# Altium schematic symbol library SENS - Motion Sensors - Accelerometers.SchLib: 3 symbols
Pins are listed as number, name and electrical type; pins without a type are passive.

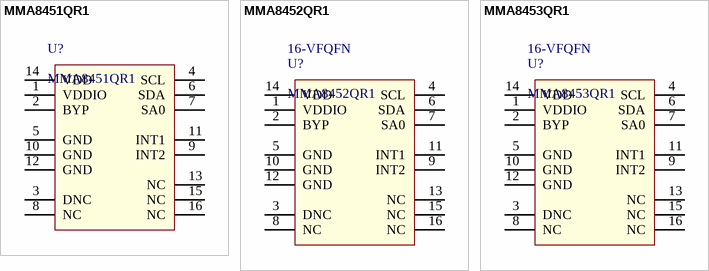
[diagram p0: symbols MMA8451QR1 to MMA8453QR1]

## MMA8451QR1
designator U?
ACCELEROMETER 2-8G I2C 16QFN; Manufacturer: NXP USA Inc.; Axis: X, Y, Z; Acceleration Range: ±2g, 4g, 8g; Sensitivity (LSB/g): 4096 (±2g) ~ 1024 (±8g); Bandwidth: 0.78Hz ~ 400Hz; Output Type: I²C; Voltage - Supply: 1.95 V ~ 3.6 V; Supplier 1: Digi-Key; Supplier Part Number 1: MMA8451QR1CT-ND; Manufacturer Part Number: MMA8451QR1; RoHS: RoHS Compliant; Category: Sensors, Transducers; Stock 1: 45561; Pricing 1: 1=2.65, 5=2.502, 10=2.145, 25=1.716, 50=1.573, 100=1.43, 500=1.25126 (USD); Packaging: Cut Tape (CT); Part Status: Active; Type: Digital; Sensitivity (mV/g): -; Features: Adjustable Bandwidth, Selectable Scale, Sleep Mode; Operating Temperature: -40°C ~ 85°C (TA); Mounting Type: Surface Mount; Supplier Device Package: 16-QFN (3x3); ComponentLink1URL: http://cache.freescale.com/files/sensors/doc/data_sheet/MMA8451Q.pdf; ComponentLink1Description: http://cache.freescale.com/files/sensors/doc/data_sheet/MMA8451Q.pdf; Package: 16-VFQFN
footprint QFN-16 MMA845xQ (QFN, 16-Leads, Body 3.0x3.0mm (max), Pitch 0.50mm, IPC Low Density)
pins: 1 VDDIO "Internal power supply (1.62 V to 3.6 V)", 2 BYP "Bypass capacitor (0.1 mF)", 3 DNC "Do not connect to anything, leave pin isolated and floating.", 4 SCL "I2C serial clock, open drain", 5 GND "Connect to ground", 6 SDA "I2C serial data", 7 SA0 "I2C least significant bit of the device I2C address, I2C 7-bit address = 0x1C (SA0 = 0), 0x1D (SA0 = 1).", 8 NC "Internally not connected", 9 INT2 "Inertial interrupt 2, output pin", 10 GND "Connect to ground", 11 INT1 "Inertial interrupt 1, output pin", 12 GND "Connect to ground", 13 NC "Internally not connected", 14 VDD "Power supply (1.95 V to 3.6 V)", 15 NC "Internally not connected", 16 NC "Internally not connected (can be GND or VDD)"

## MMA8452QR1
designator U?  Package: 16-VFQFN
ACCELEROMETER 2-8G I2C 16QFN; Manufacturer: NXP USA Inc.; Axis: X, Y, Z; Acceleration Range: ±2g, 4g, 8g; Sensitivity (LSB/g): 1024 (±2g) ~ 256 (±8g); Bandwidth: 0.78Hz ~ 400Hz; Output Type: I²C; Voltage - Supply: 1.95 V ~ 3.6 V; Supplier 1: Digi-Key; Supplier Part Number 1: MMA8452QR1CT-ND; Manufacturer Part Number: MMA8452QR1; RoHS: RoHS Compliant; Category: Sensors, Transducers; Stock 1: 40000; Pricing 1: 1=2.08, 5=1.964, 10=1.683, 25=1.3464, 50=1.2342, 100=1.122, 500=0.98176 (USD); Packaging: Cut Tape (CT); Part Status: Active; Type: Digital; Sensitivity (mV/g): -; Features: Adjustable Bandwidth, Selectable Scale, Sleep Mode; Operating Temperature: -40°C ~ 85°C (TA); Mounting Type: Surface Mount; Supplier Device Package: 16-QFN (3x3); ComponentLink1URL: http://cache.freescale.com/files/sensors/doc/data_sheet/MMA8452Q.pdf; ComponentLink1Description: http://cache.freescale.com/files/sensors/doc/data_sheet/MMA8452Q.pdf
footprint QFN-16 MMA845xQ (QFN, 16-Leads, Body 3.0x3.0mm (max), Pitch 0.50mm, IPC Low Density)
pins: 1 VDDIO "Internal power supply (1.62 V to 3.6 V)", 2 BYP "Bypass capacitor (0.1 mF)", 3 DNC "Do not connect to anything, leave pin isolated and floating.", 4 SCL "I2C serial clock, open drain", 5 GND "Connect to ground", 6 SDA "I2C serial data", 7 SA0 "I2C least significant bit of the device I2C address, I2C 7-bit address = 0x1C (SA0 = 0), 0x1D (SA0 = 1).", 8 NC "Internally not connected", 9 INT2 "Inertial interrupt 2, output pin", 10 GND "Connect to ground", 11 INT1 "Inertial interrupt 1, output pin", 12 GND "Connect to ground", 13 NC "Internally not connected", 14 VDD "Power supply (1.95 V to 3.6 V)", 15 NC "Internally not connected", 16 NC "Internally not connected (can be GND or VDD)"

## MMA8453QR1
designator U?  Package: 16-VFQFN
ACCELEROMETER 2-8G I2C 16QFN; Manufacturer: NXP USA Inc.; Axis: X, Y, Z; Acceleration Range: ±2g, 4g, 8g; Sensitivity (LSB/g): 256 (±2g) ~ 64 (±8g); Bandwidth: 0.78Hz ~ 400Hz; Output Type: I²C; Voltage - Supply: 1.95 V ~ 3.6 V; Supplier 1: Digi-Key; Supplier Part Number 1: MMA8453QR1CT-ND; Manufacturer Part Number: MMA8453QR1; RoHS: RoHS Compliant; Category: Sensors, Transducers; Stock 1: 8975; Pricing 1: 1=2.08, 5=1.964, 10=1.683, 25=1.3464, 50=1.2342, 100=1.122, 500=0.98176 (USD); Packaging: Cut Tape (CT); Part Status: Active; Type: Digital; Sensitivity (mV/g): -; Features: Adjustable Bandwidth, Selectable Scale, Sleep Mode; Operating Temperature: -40°C ~ 85°C (TA); Mounting Type: Surface Mount; Supplier Device Package: 16-QFN (3x3); ComponentLink1URL: http://cache.freescale.com/files/sensors/doc/data_sheet/MMA8453Q.pdf; ComponentLink1Description: http://cache.freescale.com/files/sensors/doc/data_sheet/MMA8453Q.pdf
footprint QFN-16 MMA845xQ (QFN, 16-Leads, Body 3.0x3.0mm (max), Pitch 0.50mm, IPC Low Density)
pins: 1 VDDIO "Internal power supply (1.62 V to 3.6 V)", 2 BYP "Bypass capacitor (0.1 mF)", 3 DNC "Do not connect to anything, leave pin isolated and floating.", 4 SCL "I2C serial clock, open drain", 5 GND "Connect to ground", 6 SDA "I2C serial data", 7 SA0 "I2C least significant bit of the device I2C address, I2C 7-bit address = 0x1C (SA0 = 0), 0x1D (SA0 = 1).", 8 NC "Internally not connected", 9 INT2 "Inertial interrupt 2, output pin", 10 GND "Connect to ground", 11 INT1 "Inertial interrupt 1, output pin", 12 GND "Connect to ground", 13 NC "Internally not connected", 14 VDD "Power supply (1.95 V to 3.6 V)", 15 NC "Internally not connected", 16 NC "Internally not connected (can be GND or VDD)"